# Altium footprint library JO53.PcbLib: 1 footprints
Each footprint in its own frame and in the unit in brackets; x right, y up, seen from the top. Pads: shape width x height; smd on the part's side, far side on the other; paste and mask are expansions set on the pad; w line width, h text height; cw(c..) or ccw(c..) is an arc to the next point about the centre after c.
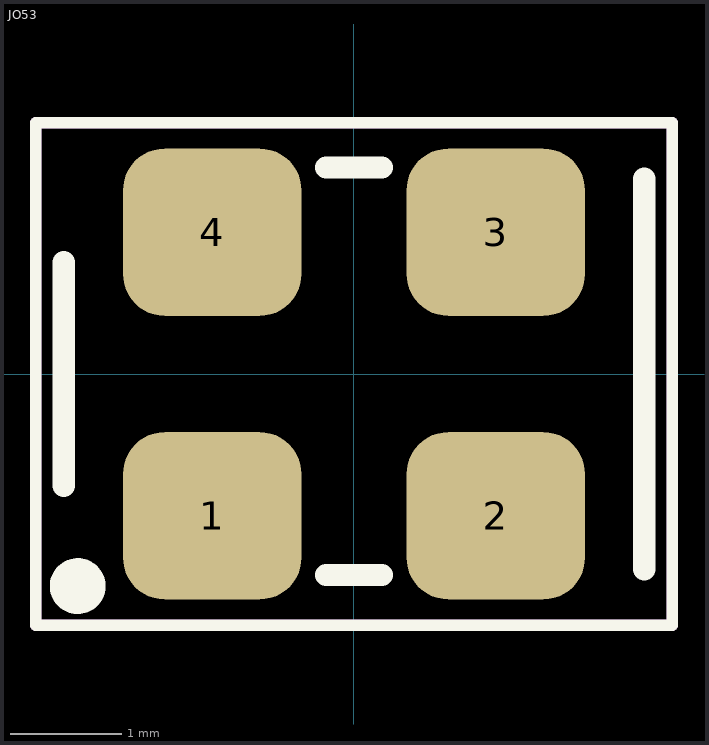
[diagram p0: the footprint, top view; thin cyan lines are the x and y axes]

## JO53 [mm]
pads (4):
  rrect50% 1.6x1.5 smd: 1(-1.27,-1.27) 2(1.27,-1.27) 3(1.27,1.27) 4(-1.27,1.27)
Top Overlay:
  circle w0.25: c-2.475,-1.9 r0.125
  lines w0.1: -2.85,-2.25 -2.85,2.25 2.85,2.25 2.85,-2.25 -2.85,-2.25
  lines w0.2: -2.6,-1 -2.6,1 ; -0.25,-1.8 0.25,-1.8 ; -0.25,1.85 0.25,1.85 ; 2.6,-1.75 2.6,1.75
Mechanical 15:
  lines w0.1: -2.85,-2.25 2.85,-2.25 2.85,2.25 -2.85,2.25 -2.85,-2.25
3D body: height 0.5, standoff 0.05, extent -2.604,-1.701 2.601,1.701
3D body: height 1.21, standoff 1.2, extent -2.09,-1.204 -1.841,-0.955
3D body: height 0.5, standoff 0, extent -1.8,0.573 -0.7,1.7
3D body: height 0.5, standoff 0, extent 0.7,0.573 1.8,1.7
3D body: height 0.5, standoff 0, extent 0.7,-1.7 1.8,-0.573
3D body: height 0.5, standoff 0, extent -1.8,-1.7 -0.7,-0.573
3D body: height 1, standoff 0.5, extent -2.601,-1.701 2.601,1.701
3D body: height 1.2, standoff 1, extent -2.601,-1.701 2.601,1.701